# Altium schematic symbol library CON2_JP.SchLib: 1 symbol
Pins are listed as number, name and electrical type; pins without a type are passive.

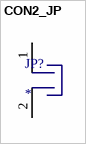
[diagram p0: symbol CON2_JP]

## CON2_JP
designator JP?
pins: 1, 2